# Altium integrated library WE-FC_rev15a.intlib: 24 symbols
Pins are listed as number, name and electrical type; pins without a type are passive.

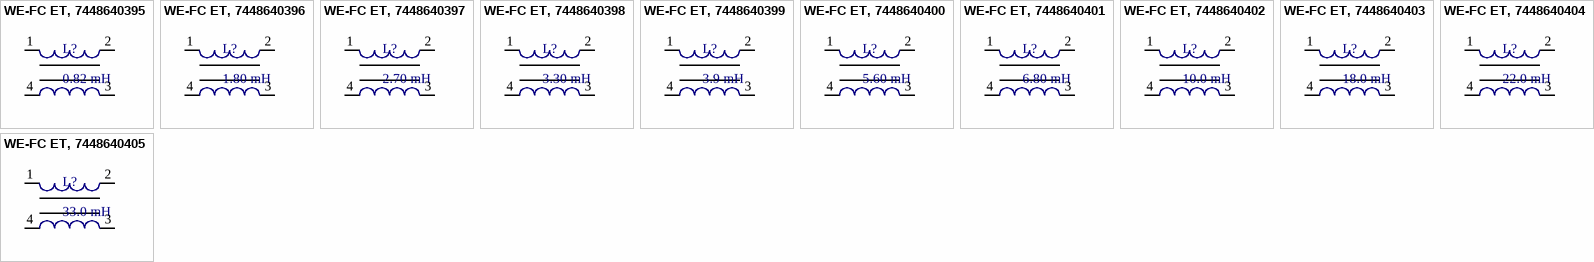
[diagram p0: symbols WE-FC ET, 7448640395 to WE-FC ET, 7448640405]

## WE-FC ET, 7448640395
designator L?, comment 0.82 mH
THT Common Mode Power Line Choke WE-FC, L=0.82 mH; partNo: 7448640395; Manufacturer: Würth Elektronik eiSos GmbH; Inductance: 0.82 mH; ComponentLink1Description: Manufacturer; ComponentLink1URL: http://www.we-online.de; Created by: Christin Zierenner; Created Date: March 2010; ComponentLink2Description: Datasheet; ComponentLink2URL: http://www.we-online.de/katalog/media/pdf/7448640395.pdf
footprint WE-FC_ET (THT Inductor, 4-Leads, Body 21,2x21,2mm)
pins: 1, 2, 3, 4

## WE-FC ET, 7448640396
designator L?, comment 1.80 mH
THT Common Mode Power Line Choke WE-FC, L=1.80 mH; partNo: 7448640396; Manufacturer: Würth Elektronik eiSos GmbH; Inductance: 1.80 mH; ComponentLink1Description: Manufacturer; ComponentLink1URL: http://www.we-online.de; Created by: Christin Zierenner; Created Date: March 2010; ComponentLink2Description: Datasheet; ComponentLink2URL: http://www.we-online.de/katalog/media/pdf/7448640396.pdf
footprint WE-FC_ET (THT Inductor, 4-Leads, Body 21,2x21,2mm)
pins: 1, 2, 3, 4

## WE-FC ET, 7448640397
designator L?, comment 2.70 mH
THT Common Mode Power Line Choke WE-FC, L=2.70 mH; partNo: 7448640397; Manufacturer: Würth Elektronik eiSos GmbH; Inductance: 2.70 mH; ComponentLink1Description: Manufacturer; ComponentLink1URL: http://www.we-online.de; Created by: Christin Zierenner; Created Date: March 2010; ComponentLink2Description: Datasheet; ComponentLink2URL: http://www.we-online.de/katalog/media/pdf/7448640397.pdf
footprint WE-FC_ET (THT Inductor, 4-Leads, Body 21,2x21,2mm)
pins: 1, 2, 3, 4

## WE-FC ET, 7448640398
designator L?, comment 3.30 mH
THT Common Mode Power Line Choke WE-FC, L=3.30 mH; partNo: 7448640398; Manufacturer: Würth Elektronik eiSos GmbH; Inductance: 3.30 mH; ComponentLink1Description: Manufacturer; ComponentLink1URL: http://www.we-online.de; Created by: Christin Zierenner; Created Date: March 2010; ComponentLink2Description: Datasheet; ComponentLink2URL: http://www.we-online.de/katalog/media/pdf/7448640398.pdf
footprint WE-FC_ET (THT Inductor, 4-Leads, Body 21,2x21,2mm)
pins: 1, 2, 3, 4

## WE-FC ET, 7448640399
designator L?, comment 3.9 mH
THT Common Mode Power Line Choke WE-FC, L=3.9 mH; partNo: 7448640399; Manufacturer: Würth Elektronik eiSos GmbH; Inductance: 3.9 mH; ComponentLink1Description: Manufacturer; ComponentLink1URL: http://www.we-online.de; Created by: Christin Zierenner; Created Date: March 2010; ComponentLink2Description: Datasheet; ComponentLink2URL: http://www.we-online.de/katalog/media/pdf/7448640399.pdf
footprint WE-FC_ET (THT Inductor, 4-Leads, Body 21,2x21,2mm)
pins: 1, 2, 3, 4

## WE-FC ET, 7448640400
designator L?, comment 5.60 mH
THT Common Mode Power Line Choke WE-FC, L=5.60 mH; partNo: 7448640400; Manufacturer: Würth Elektronik eiSos GmbH; Inductance: 5.60 mH; ComponentLink1Description: Manufacturer; ComponentLink1URL: http://www.we-online.de; Created by: Christin Zierenner; Created Date: March 2010; ComponentLink2Description: Datasheet; ComponentLink2URL: http://www.we-online.de/katalog/media/pdf/7448640400.pdf
footprint WE-FC_ET (THT Inductor, 4-Leads, Body 21,2x21,2mm)
pins: 1, 2, 3, 4

## WE-FC ET, 7448640401
designator L?, comment 6.80 mH
THT Common Mode Power Line Choke WE-FC, L=6.80 mH; partNo: 7448640401; Manufacturer: Würth Elektronik eiSos GmbH; Inductance: 6.80 mH; ComponentLink1Description: Manufacturer; ComponentLink1URL: http://www.we-online.de; Created by: Christin Zierenner; Created Date: March 2010; ComponentLink2Description: Datasheet; ComponentLink2URL: http://www.we-online.de/katalog/media/pdf/7448640401.pdf
footprint WE-FC_ET (THT Inductor, 4-Leads, Body 21,2x21,2mm)
pins: 1, 2, 3, 4

## WE-FC ET, 7448640402
designator L?, comment 10.0 mH
THT Common Mode Power Line Choke WE-FC, L=10.0 mH; partNo: 7448640402; Manufacturer: Würth Elektronik eiSos GmbH; Inductance: 10.0 mH; ComponentLink1Description: Manufacturer; ComponentLink1URL: http://www.we-online.de; Created by: Christin Zierenner; Created Date: March 2010; ComponentLink2Description: Datasheet; ComponentLink2URL: http://www.we-online.de/katalog/media/pdf/7448640401.pdf
footprint WE-FC_ET (THT Inductor, 4-Leads, Body 21,2x21,2mm)
pins: 1, 2, 3, 4

## WE-FC ET, 7448640403
designator L?, comment 18.0 mH
THT Common Mode Power Line Choke WE-FC, L=18.0 mH; partNo: 7448640403; Manufacturer: Würth Elektronik eiSos GmbH; Inductance: 18.0 mH; ComponentLink1Description: Manufacturer; ComponentLink1URL: http://www.we-online.de; Created by: Christin Zierenner; Created Date: March 2010; ComponentLink2Description: Datasheet; ComponentLink2URL: http://www.we-online.de/katalog/media/pdf/7448640403.pdf
footprint WE-FC_ET (THT Inductor, 4-Leads, Body 21,2x21,2mm)
pins: 1, 2, 3, 4

## WE-FC ET, 7448640404
designator L?, comment 22.0 mH
THT Common Mode Power Line Choke WE-FC, L=22.0 mH; partNo: 7448640404; Manufacturer: Würth Elektronik eiSos GmbH; Inductance: 22.0 mH; ComponentLink1Description: Manufacturer; ComponentLink1URL: http://www.we-online.de; Created by: Christin Zierenner; Created Date: March 2010; ComponentLink2Description: Datasheet; ComponentLink2URL: http://www.we-online.de/katalog/media/pdf/7448640404.pdf
footprint WE-FC_ET (THT Inductor, 4-Leads, Body 21,2x21,2mm)
pins: 1, 2, 3, 4

## WE-FC ET, 7448640405
designator L?, comment 33.0 mH
THT Common Mode Power Line Choke WE-FC, L=33.0 mH; partNo: 7448640405; Manufacturer: Würth Elektronik eiSos GmbH; Inductance: 33.0 mH; ComponentLink1Description: Manufacturer; ComponentLink1URL: http://www.we-online.de; Created by: Christin Zierenner; Created Date: March 2010; ComponentLink2Description: Datasheet; ComponentLink2URL: http://www.we-online.de/katalog/media/pdf/7448640405.pdf
footprint WE-FC_ET (THT Inductor, 4-Leads, Body 21,2x21,2mm)
pins: 1, 2, 3, 4


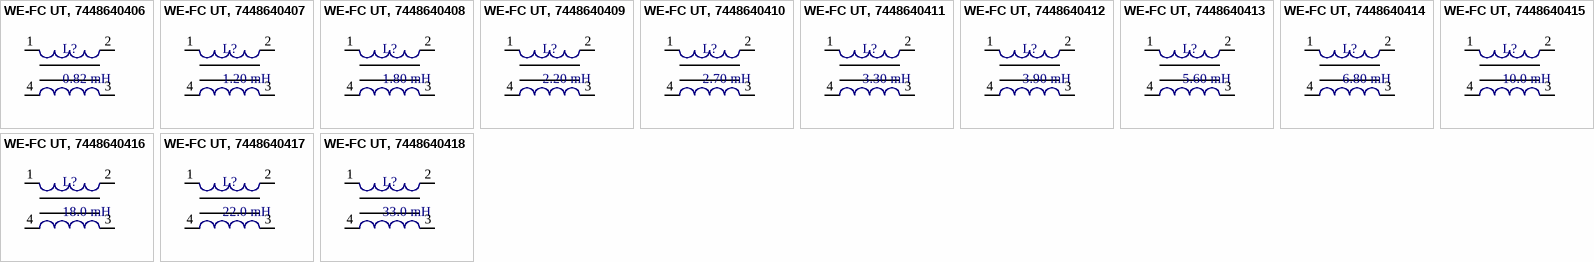
[diagram p1: symbols WE-FC UT, 7448640406 to WE-FC UT, 7448640418]

## WE-FC UT, 7448640406
designator L?, comment 0.82 mH
THT Common Mode Power Line Choke WE-FC, L=0.82 mH; partNo: 7448640406; Manufacturer: Würth Elektronik eiSos GmbH; Inductance: 0.82 mH; ComponentLink1Description: Manufacturer; ComponentLink1URL: http://www.we-online.de; Created by: Christin Zierenner; Created Date: March 2010; ComponentLink2Description: Datasheet; ComponentLink2URL: http://www.we-online.de/katalog/media/pdf/7448640406.pdf
footprint WE-FC_UT (THT Inductor, 4-Leads, Body 21,2x16,6mm)
pins: 1, 2, 3, 4

## WE-FC UT, 7448640407
designator L?, comment 1.20 mH
THT Common Mode Power Line Choke WE-FC, L=1.20 mH; partNo: 7448640407; Manufacturer: Würth Elektronik eiSos GmbH; Inductance: 1.20 mH; ComponentLink1Description: Manufacturer; ComponentLink1URL: http://www.we-online.de; Created by: Christin Zierenner; Created Date: March 2010; ComponentLink2Description: Datasheet; ComponentLink2URL: http://www.we-online.de/katalog/media/pdf/7448640407.pdf
footprint WE-FC_UT (THT Inductor, 4-Leads, Body 21,2x16,6mm)
pins: 1, 2, 3, 4

## WE-FC UT, 7448640408
designator L?, comment 1.80 mH
THT Common Mode Power Line Choke WE-FC, L=1.80 mH; partNo: 7448640408; Manufacturer: Würth Elektronik eiSos GmbH; Inductance: 1.80 mH; ComponentLink1Description: Manufacturer; ComponentLink1URL: http://www.we-online.de; Created by: Christin Zierenner; Created Date: March 2010; ComponentLink2Description: Datasheet; ComponentLink2URL: http://www.we-online.de/katalog/media/pdf/7448640408.pdf
footprint WE-FC_UT (THT Inductor, 4-Leads, Body 21,2x16,6mm)
pins: 1, 2, 3, 4

## WE-FC UT, 7448640409
designator L?, comment 2.20 mH
THT Common Mode Power Line Choke WE-FC, L=2.20 mH; partNo: 7448640409; Manufacturer: Würth Elektronik eiSos GmbH; Inductance: 2.20 mH; ComponentLink1Description: Manufacturer; ComponentLink1URL: http://www.we-online.de; Created by: Christin Zierenner; Created Date: March 2010; ComponentLink2Description: Datasheet; ComponentLink2URL: http://www.we-online.de/katalog/media/pdf/7448640409.pdf
footprint WE-FC_UT (THT Inductor, 4-Leads, Body 21,2x16,6mm)
pins: 1, 2, 3, 4

## WE-FC UT, 7448640410
designator L?, comment 2.70 mH
THT Common Mode Power Line Choke WE-FC, L=2.70 mH; partNo: 7448640410; Manufacturer: Würth Elektronik eiSos GmbH; Inductance: 2.70 mH; ComponentLink1Description: Manufacturer; ComponentLink1URL: http://www.we-online.de; Created by: Christin Zierenner; Created Date: March 2010; ComponentLink2Description: Datasheet; ComponentLink2URL: http://www.we-online.de/katalog/media/pdf/7448640410.pdf
footprint WE-FC_UT (THT Inductor, 4-Leads, Body 21,2x16,6mm)
pins: 1, 2, 3, 4

## WE-FC UT, 7448640411
designator L?, comment 3.30 mH
THT Common Mode Power Line Choke WE-FC, L=3.30 mH; partNo: 7448640411; Manufacturer: Würth Elektronik eiSos GmbH; Inductance: 3.30 mH; ComponentLink1Description: Manufacturer; ComponentLink1URL: http://www.we-online.de; Created by: Christin Zierenner; Created Date: March 2010; ComponentLink2Description: Datasheet; ComponentLink2URL: http://www.we-online.de/katalog/media/pdf/7448640411.pdf
footprint WE-FC_UT (THT Inductor, 4-Leads, Body 21,2x16,6mm)
pins: 1, 2, 3, 4

## WE-FC UT, 7448640412
designator L?, comment 3.90 mH
THT Common Mode Power Line Choke WE-FC, L=3.90 mH; partNo: 7448640412; Manufacturer: Würth Elektronik eiSos GmbH; Inductance: 3.90 mH; ComponentLink1Description: Manufacturer; ComponentLink1URL: http://www.we-online.de; Created by: Christin Zierenner; Created Date: March 2010; ComponentLink2Description: Datasheet; ComponentLink2URL: http://www.we-online.de/katalog/media/pdf/7448640411.pdf
footprint WE-FC_UT (THT Inductor, 4-Leads, Body 21,2x16,6mm)
pins: 1, 2, 3, 4

## WE-FC UT, 7448640413
designator L?, comment 5.60 mH
THT Common Mode Power Line Choke WE-FC, L=5.60 mH; partNo: 7448640413; Manufacturer: Würth Elektronik eiSos GmbH; Inductance: 5.60 mH; ComponentLink1Description: Manufacturer; ComponentLink1URL: http://www.we-online.de; Created by: Christin Zierenner; Created Date: March 2010; ComponentLink2Description: Datasheet; ComponentLink2URL: http://www.we-online.de/katalog/media/pdf/7448640413.pdf
footprint WE-FC_UT (THT Inductor, 4-Leads, Body 21,2x16,6mm)
pins: 1, 2, 3, 4

## WE-FC UT, 7448640414
designator L?, comment 6.80 mH
THT Common Mode Power Line Choke WE-FC, L=6.80 mH; partNo: 7448640414; Manufacturer: Würth Elektronik eiSos GmbH; Inductance: 6.80 mH; ComponentLink1Description: Manufacturer; ComponentLink1URL: http://www.we-online.de; Created by: Christin Zierenner; Created Date: March 2010; ComponentLink2Description: Datasheet; ComponentLink2URL: http://www.we-online.de/katalog/media/pdf/7448640414.pdf
footprint WE-FC_UT (THT Inductor, 4-Leads, Body 21,2x16,6mm)
pins: 1, 2, 3, 4

## WE-FC UT, 7448640415
designator L?, comment 10.0 mH
THT Common Mode Power Line Choke WE-FC, L=10.0 mH; partNo: 7448640415; Manufacturer: Würth Elektronik eiSos GmbH; Inductance: 10.0 mH; ComponentLink1Description: Manufacturer; ComponentLink1URL: http://www.we-online.de; Created by: Christin Zierenner; Created Date: March 2010; ComponentLink2Description: Datasheet; ComponentLink2URL: http://www.we-online.de/katalog/media/pdf/7448640415.pdf
footprint WE-FC_UT (THT Inductor, 4-Leads, Body 21,2x16,6mm)
pins: 1, 2, 3, 4

## WE-FC UT, 7448640416
designator L?, comment 18.0 mH
THT Common Mode Power Line Choke WE-FC, L=18.0 mH; partNo: 7448640416; Manufacturer: Würth Elektronik eiSos GmbH; Inductance: 18.0 mH; ComponentLink1Description: Manufacturer; ComponentLink1URL: http://www.we-online.de; Created by: Christin Zierenner; Created Date: March 2010; ComponentLink2Description: Datasheet; ComponentLink2URL: http://www.we-online.de/katalog/media/pdf/7448640416.pdf
footprint WE-FC_UT (THT Inductor, 4-Leads, Body 21,2x16,6mm)
pins: 1, 2, 3, 4

## WE-FC UT, 7448640417
designator L?, comment 22.0 mH
THT Common Mode Power Line Choke WE-FC, L=22.0 mH; partNo: 7448640417; Manufacturer: Würth Elektronik eiSos GmbH; Inductance: 22.0 mH; ComponentLink1Description: Manufacturer; ComponentLink1URL: http://www.we-online.de; Created by: Christin Zierenner; Created Date: March 2010; ComponentLink2Description: Datasheet; ComponentLink2URL: http://www.we-online.de/katalog/media/pdf/7448640417.pdf
footprint WE-FC_UT (THT Inductor, 4-Leads, Body 21,2x16,6mm)
pins: 1, 2, 3, 4

## WE-FC UT, 7448640418
designator L?, comment 33.0 mH
THT Common Mode Power Line Choke WE-FC, L=33.0 mH; partNo: 7448640418; Manufacturer: Würth Elektronik eiSos GmbH; Inductance: 33.0 mH; ComponentLink1Description: Manufacturer; ComponentLink1URL: http://www.we-online.de; Created by: Christin Zierenner; Created Date: March 2010; ComponentLink2Description: Datasheet; ComponentLink2URL: http://www.we-online.de/katalog/media/pdf/7448640418.pdf
footprint WE-FC_UT (THT Inductor, 4-Leads, Body 21,2x16,6mm)
pins: 1, 2, 3, 4